# EAGLE library part SKY14151-350 (library ohranyator)
skyworksinc.com RF SP4T 100MHZ-2.5GHZ 16QFN 3x3mm SWITCH
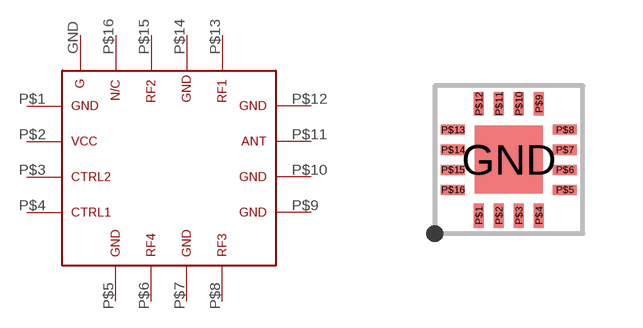
[diagram p5: symbol with the pads of SKY14151-350; footprint SKY14151-350]

Designator prefix -

## SKY14151-350  [SKY14151-350]
GND  P$17
P$1  P$1
P$2  P$2
P$3  P$3
P$4  P$4
P$5  P$5
P$6  P$6
P$7  P$7
P$8  P$8
P$9  P$9
P$10  P$10
P$11  P$11
P$12  P$12
P$13  P$13
P$14  P$14
P$15  P$15
P$16  P$16

## Footprint SKY14151-350 (pad centres in mm)
smd 1.7 x 1.7: GND 1.5,1.5
smd 0.25 x 0.6: P$1 0.75,0.1; P$2 1.25,0.1; P$3 1.75,0.1; P$4 2.25,0.1; P$9 2.25,2.9; P$10 1.75,2.9; P$11 1.25,2.9; P$12 0.75,2.9
smd 0.6 x 0.25: P$5 2.9,0.75; P$6 2.9,1.25; P$7 2.9,1.75; P$8 2.9,2.25; P$13 0.1,2.25; P$14 0.1,1.75; P$15 0.1,1.25; P$16 0.1,0.75